# Altium footprint library ECS-160-12-33Q-JES-TR.PcbLib: 2 footprints
Each footprint in its own frame and in the unit in brackets; x right, y up, seen from the top. Pads: shape width x height; smd on the part's side, far side on the other; paste and mask are expansions set on the pad; w line width, h text height; cw(c..) or ccw(c..) is an arc to the next point about the centre after c.
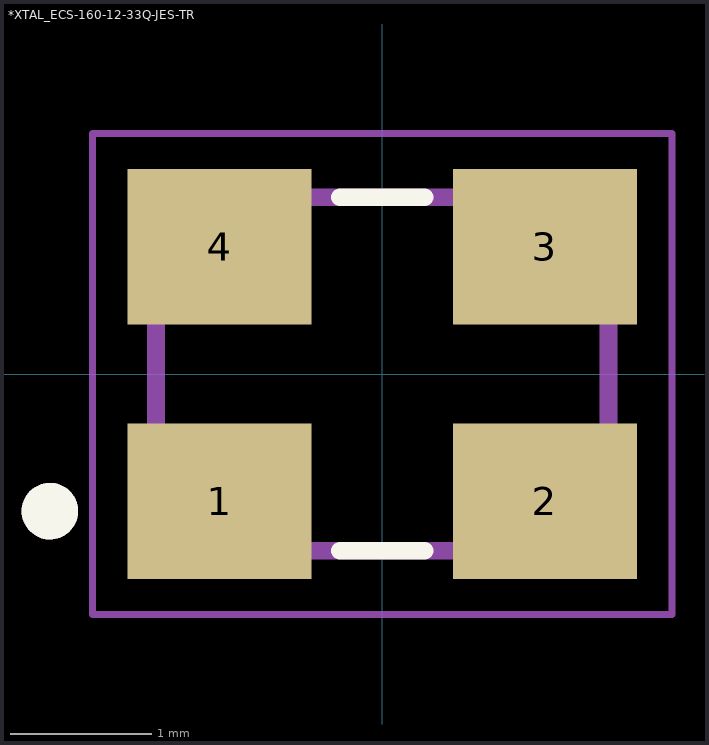
[diagram p0: the footprints below, top view; thin cyan lines are the x and y axes]

## *XTAL_ECS-160-12-33Q-JES-TR [mm]
pads (4):
  rect 1.3x1.1 smd: 1(-1.15,-0.9) 2(1.15,-0.9) 3(1.15,0.9) 4(-1.15,0.9)
Top Overlay:
  circle w0.2: c-2.35,-0.97 r0.1
  lines w0.127: -0.3,-1.25 0.3,-1.25 ; -0.3,1.25 0.3,1.25
Mechanical 4:
  circle w0.2: c-2.35,-0.97 r0.1
  circle w0.2: c-2.35,-0.97 r0.1
  lines w0.127: -1.6,-1.25 1.6,-1.25 ; -1.6,-1.25 -1.6,1.25 ; -1.6,-1.25 1.6,-1.25 ; -1.6,-1.25 -1.6,1.25 ; -1.6,1.25 1.6,1.25 ; -1.6,1.25 1.6,1.25 ; 1.6,-1.25 1.6,1.25 ; 1.6,-1.25 1.6,1.25
Mechanical 16:
  lines w0.05: -2.05,-1.7 2.05,-1.7 2.05,1.7 -2.05,1.7 -2.05,-1.7

## PCBComponent_1 [mm]